# Altium footprint library PcbLib1.PcbLib: 1 footprints
Each footprint in its own frame and in the unit in brackets; x right, y up, seen from the top. Pads: shape width x height; smd on the part's side, far side on the other; paste and mask are expansions set on the pad; w line width, h text height; cw(c..) or ccw(c..) is an arc to the next point about the centre after c.
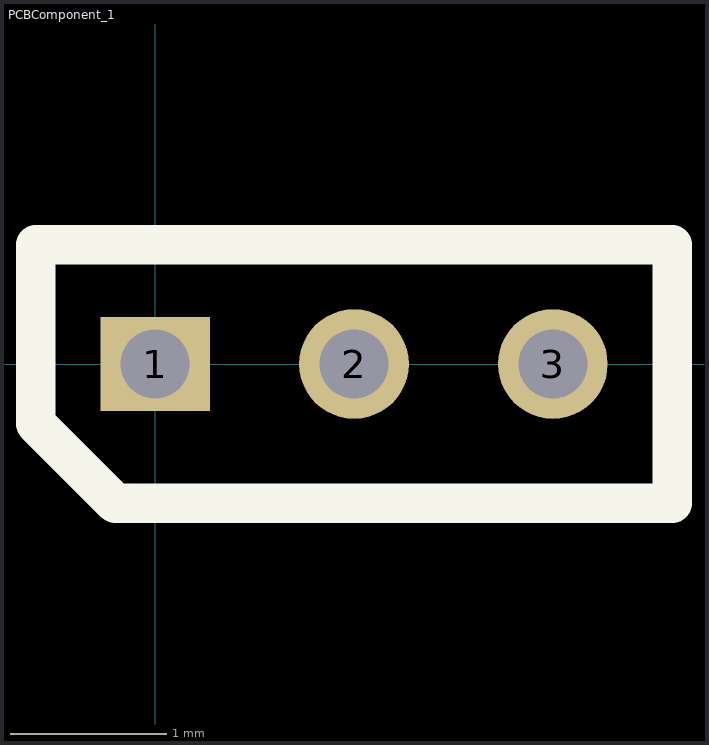
[diagram p0: the footprint, top view; thin cyan lines are the x and y axes]

## PCBComponent_1 [mm]
pads (3):
  rect 0.7x0.6 hole 0.44: 1(0,0)
  round 0.7 hole 0.44: 2(1.27,0) 3(2.54,0)
Top Overlay:
  lines w0.254: -0.762,-0.381 -0.762,0.762 3.302,0.762 3.302,-0.889 -0.254,-0.889 -0.762,-0.381